# Altium integrated library BMA400.IntLib: 1 symbol
Pins are listed as number, name and electrical type; pins without a type are passive.

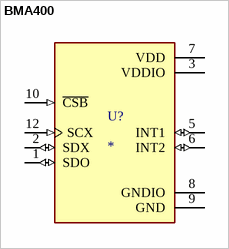
[diagram p0: symbol BMA400]

## BMA400
designator U?
Accelerometer X, Y, Z Axis ±2g, 4g, 8g, 16g - 12-LGA (2x2); MF: Bosch Sensortec; MP: BMA400; SnapEDA_Link: https://www.snapeda.com/parts/BMA400/Bosch+Sensortec/view-part/?ref=snap; Package: LGA-12 Bosch Tools; Value: *; Check_prices: https://www.snapeda.com/parts/BMA400/Bosch+Sensortec/view-part/?ref=eda
footprint XDCR_BMA400
pins: 1 SDO (io), 2 SDX (io), 3 VDDIO (power), 5 INT1 (io), 6 INT2 (io), 7 VDD (power), 8 GNDIO (power), 9 GND (power), 10 ~{CSB} (in), 12 SCX (in)